# EAGLE library part OPT3001DNPRQ1 (library OPT3001DNPRQ1)
Automotive digital ambient light sensor (ALS) with high-precision human-eye response Source: Datasheet <http://www.ti.com/lit/gpn/OPT3001-Q1>
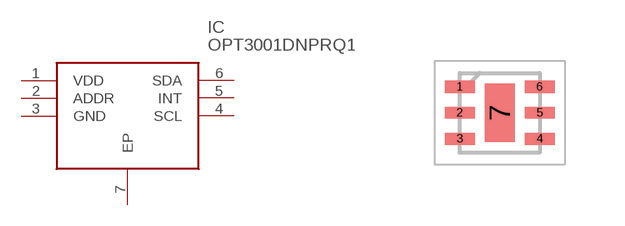
[diagram p0: symbol with the pads of SON65P200X200X65-7N; footprint SON65P200X200X65-7N]

Designator prefix IC

## OPT3001DNPRQ1 (Description: Automotive digital ambient light sensor (ALS) with high-precision human-eye response; Height: 0.65mm; Manufacturer_Name: Texas Instruments; Manufacturer_Part_Number: OPT3001DNPRQ1; Mouser_Part_Number: 595-OPT3001DNPRQ1; Mouser_Price-Stock: https://www.mouser.co.uk/ProductDetail/Texas-Instruments/OPT3001DNPRQ1?qs=F5EMLAvA7IAmN2MDU1xuSw%3D%3D)  [SON65P200X200X65-7N]
1  VDD
2  ADDR
3  GND
4  SCL
5  INT
6  SDA
7  EP

## Footprint SON65P200X200X65-7N (pad centres in mm)
OPT3001DNPRQ1
smd 0.75 x 0.3: 1 -1,0.65; 2 -1,0; 3 -1,-0.65; 4 1,-0.65; 5 1,0; 6 1,0.65
smd 0.75 x 1.45: 7 0,0